# Altium footprint library SparkFun-Connectors.PCBLIB: 386 footprints (part 23 of 25)
Each footprint in its own frame and in the unit in brackets; x right, y up, seen from the top. Pads: shape width x height; smd on the part's side, far side on the other; paste and mask are expansions set on the pad; w line width, h text height; cw(c..) or ccw(c..) is an arc to the next point about the centre after c.
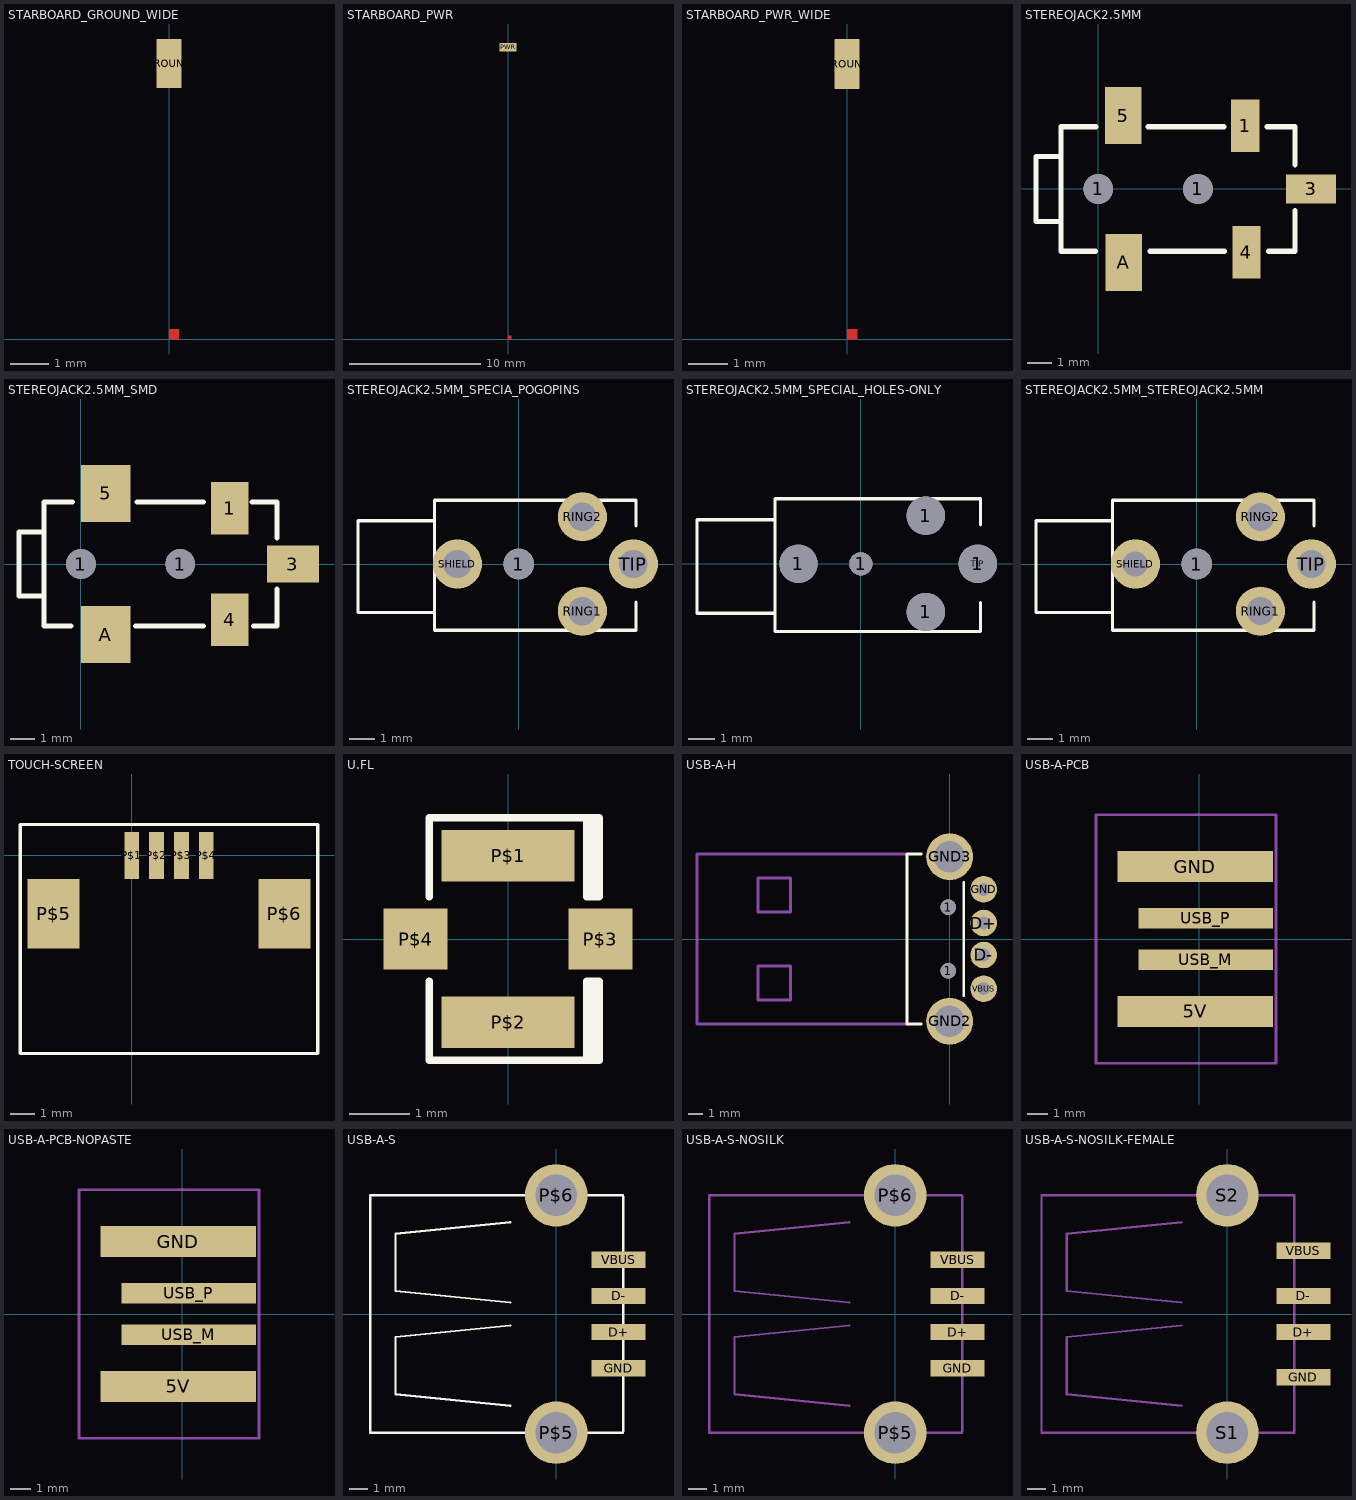
[diagram p22: the footprints below, top view; thin cyan lines are the x and y axes]

## STARBOARD_GROUND_WIDE [mil]
pads (1):
  rect 25x50 smd: GROUND(0,280)
Top Layer:
  region: 0,0 10,0 10,10 0,10
Top Solder:
  region: 0,0 10,0 10,10 0,10

## STARBOARD_PWR [mil]
pads (1):
  rect 50x25 smd: PWR(0,875)
Top Layer:
  region: 0,0 10,0 10,10 0,10
Top Solder:
  region: 0,0 10,0 10,10 0,10

## STARBOARD_PWR_WIDE [mil]
pads (1):
  rect 25x50 smd: GROUND(0,275)
Top Layer:
  region: 0,0 10,0 10,10 0,10
Top Solder:
  region: 0,0 10,0 10,10 0,10

## STEREOJACK2.5MM [mm]
pads (7):
  round 1.2 hole 1.2: 1(0,0) 1(4,0)
  rect 1.145x2.1 smd: 1(5.898,2.54)
  rect 1.998x1.17 smd: 3(8.55,0)
  rect 1.119x2.1 smd: 4(5.949,-2.54)
  rect 1.467x2.3 smd: 5(1,2.951) A(1.016,-2.951)
Top Overlay:
  lines w0.203: -0.121,-2.5 -1.5,-2.5 -1.5,-1.3 ; -0.096,2.5 -1.5,2.5 -1.5,1.3 ; 1.996,2.5 5.052,2.5 ; 2.073,-2.5 5.077,-2.5 ; 6.773,2.5 7.9,2.5 7.9,0.974 ; 6.848,-2.5 7.9,-2.5 7.9,-0.873 ; -1.5,-1.3 -1.5,1.3 ; -1.5,-1.3 -2.5,-1.3 -2.5,1.3 -1.5,1.3

## STEREOJACK2.5MM_SMD [mm]
pads (7):
  round 1.2 hole 1.2: 1(0,0) 1(4,0)
  rect 1.5x2.1 smd: 1(6,2.25) 4(6,-2.25)
  rect 2.1x1.5 smd: 3(8.55,0)
  rect 2x2.3 smd: 5(1,2.85) A(1,-2.85)
Top Overlay:
  lines w0.203: -0.4,-2.5 -1.5,-2.5 -1.5,-1.3 ; -0.35,2.5 -1.5,2.5 -1.5,1.3 ; 2.2,-2.5 4.95,-2.5 ; 2.25,2.5 4.95,2.5 ; 6.9,2.5 7.9,2.5 7.9,1.05 ; 6.95,-2.5 7.9,-2.5 7.9,-1 ; -1.5,-1.3 -1.5,0 -1.5,1.3 ; -1.5,-1.3 -2.5,-1.3 -2.5,0 -2.5,1.3 -1.5,1.3

## STEREOJACK2.5MM_SPECIA_POGOPINS [mil]
pads (5):
  round 47.24 hole 47.24: 1(0,0)
  round 76 hole 44: RING1(98.43,-72.83) RING2(98.43,72.83) SHIELD(-94.49,0) TIP(177.17,0)
Top Overlay:
  lines w5: 181.1,-59.06 181.1,-102.36 -129.92,-102.36 -129.92,-74.8 ; 181.1,59.06 181.1,98.43 -129.92,98.43 -129.92,66.93 ; -129.92,-74.8 -129.92,66.93 ; -129.92,-74.8 -248.03,-74.8 -248.03,66.93 -129.92,66.93

## STEREOJACK2.5MM_SPECIAL_HOLES-ONLY [mil]
pads (9):
  round 58 hole 58: 1(-94.49,0) 1(98.43,-72.83) 1(98.43,72.83) 1(177.17,0)
  round 35 hole 35: 1(0,0)
  round 32 hole 35: RING1(98.43,-72.83) RING2(98.43,72.83) SHIELD(-94.49,0) TIP(177.17,0)
Top Overlay:
  lines w5: 181.1,-59.06 181.1,-102.36 -129.92,-102.36 -129.92,-74.8 ; 181.1,59.06 181.1,98.43 -129.92,98.43 -129.92,66.93 ; -129.92,-74.8 -129.92,66.93 ; -129.92,-74.8 -248.03,-74.8 -248.03,66.93 -129.92,66.93

## STEREOJACK2.5MM_STEREOJACK2.5MM [mil]
pads (5):
  round 47.24 hole 47.24: 1(0,0)
  round 76 hole 43.31: RING1(98.43,-72.83) RING2(98.43,72.83) TIP(177.17,0)
  round 76 hole 39.37: SHIELD(-94.49,0)
Top Overlay:
  lines w5: 173.23,98.43 165.35,98.43 ; 181.1,-59.06 181.1,-102.36 -129.92,-102.36 -129.92,-74.8 ; 181.1,59.06 181.1,98.43 165.35,98.43 ; -129.92,-74.8 -129.92,66.93 ; -129.92,-74.8 -248.03,-74.8 -248.03,66.93 -129.92,66.93 ; -129.92,66.93 -129.92,98.43 165.35,98.43

## TOUCH-SCREEN [mm]
pads (6):
  rect 0.6x1.9 smd: P$1(0,0) P$2(1,0) P$3(2,0) P$4(3,0)
  rect 2.1x2.8 smd: P$5(-3.15,-2.35) P$6(6.15,-2.35)
Top Overlay:
  lines w0.127: -4.5,-8 7.5,-8 7.5,1.25 -4.5,1.25 -4.5,-8

## U.FL [mm]
pads (4):
  rect 2.2x0.85 smd: P$1(0,1.375) P$2(0,-1.375)
  rect 1.05x1 smd: P$3(1.525,0) P$4(-1.525,0)
Top Overlay:
  lines w0.127: -1.3,-0.7 -1.3,-2 1.3,-2 ; -1.3,0.7 -1.3,2 1.3,2 ; 1.4,-2 1.4,-0.7 ; 1.4,0.7 1.4,2 ; 1.3,-2 1.3,-0.7 1.5,-0.7 1.5,-2 1.3,-2 ; 1.3,2 1.3,0.7 1.5,0.7 1.5,2 1.3,2

## USB-A-H [mil]
pads (8):
  round 43.31 hole 43.31: 1(-3.94,-88.58) 1(-3.94,88.58)
  round 74 hole 36: D+(94.49,44.37) D-(94.49,-44.37) GND(94.49,137.8) VBUS(94.49,-137.8)
  round 129.91 hole 86.61: GND2(0,-228.35) GND3(0,228.35)
Top Overlay:
  lines w8: -78.74,-236.22 -118.11,-236.22 -118.11,236.22 -78.74,236.22 ; 39.37,-157.48 39.37,157.48
Mechanical 16:
  lines w8: -118.11,-236.22 -700.79,-236.22 -700.79,236.22 -118.11,236.22 ; -531.5,-169.29 -531.5,-74.8 -440.94,-74.8 -440.94,-169.29 -531.5,-169.29 ; -531.5,74.8 -531.5,169.29 -440.94,169.29 -440.94,74.8 -531.5,74.8
  text "PCB Edge" at -153.54,-173.23 h77.5

## USB-A-PCB [mm]
pads (4):
  rect 7.5x1.5 smd: 5V(-0.2,-3.5) GND(-0.2,3.5)
  rect 6.5x1 smd: USB_M(0.3,-1) USB_P(0.3,1)
Mechanical 13:
  text "Card edge" at -6.35,-3.81 h1.57
Mechanical 16:
  lines w0.127: -5,-6 3.7,-6 3.7,6 -5,6 -5,-6

## USB-A-PCB-NOPASTE [mm]
pads (4):
  rect 7.5x1.5 smd: 5V(-0.2,-3.5) GND(-0.2,3.5)
  rect 6.5x1 smd: USB_M(0.3,-1) USB_P(0.3,1)
Mechanical 13:
  text "Card edge" at -6.35,-3.81 h1.57
Mechanical 16:
  lines w0.127: -5,-6 3.7,-6 3.7,6 -5,6 -5,-6

## USB-A-S [mil]
pads (6):
  rect 118.11x35.43 smd: D+(135.83,-39.37) D-(135.83,39.37) GND(135.83,-118.11) VBUS(135.83,118.11)
  round 136.5 hole 91: P$5(0,-258.5) P$6(0,258.5)
Top Overlay:
  lines w5: -405,-258.5 145.5,-258.5 ; -405,-255 -405,255 ; -405,258.5 145.5,258.5 ; -100,-200 -350,-175 -350,-50 -100,-25 ; -100,25 -350,50 -350,175 -100,200 ; 146,-256 146,256

## USB-A-S-NOSILK [mil]
pads (6):
  rect 118.11x35.43 smd: D+(135.83,-39.37) D-(135.83,39.37) GND(135.83,-118.11) VBUS(135.83,118.11)
  round 136.5 hole 91: P$5(0,-258.5) P$6(0,258.5)
Mechanical 16:
  lines w5: -405,-258.5 145.5,-258.5 ; -405,-255 -405,255 ; -405,258.5 145.5,258.5 ; -100,-200 -350,-175 -350,-50 -100,-25 ; -100,25 -350,50 -350,175 -100,200 ; 146,-256 146,256

## USB-A-S-NOSILK-FEMALE [mil]
pads (6):
  rect 118.11x35.43 smd: D+(165.83,-39.37) D-(165.83,39.37) GND(165.83,-137.8) VBUS(165.83,137.8)
  round 136.5 hole 91: S1(0,-258.5) S2(0,258.5)
Mechanical 16:
  lines w5: -405,-258.5 145.5,-258.5 ; -405,-255 -405,255 ; -405,258.5 145.5,258.5 ; -100,-200 -350,-175 -350,-50 -100,-25 ; -100,25 -350,50 -350,175 -100,200 ; 146,-256 146,256